# EAGLE library part BBB-M1 (library mita-akiba)
BeagleBone Black Cape Expansion Headers Mode-1 Caution(1)! Any pin input must not exceed 3.3V Caution(2)! Any pin must not be fed with voltages before the board is turned on
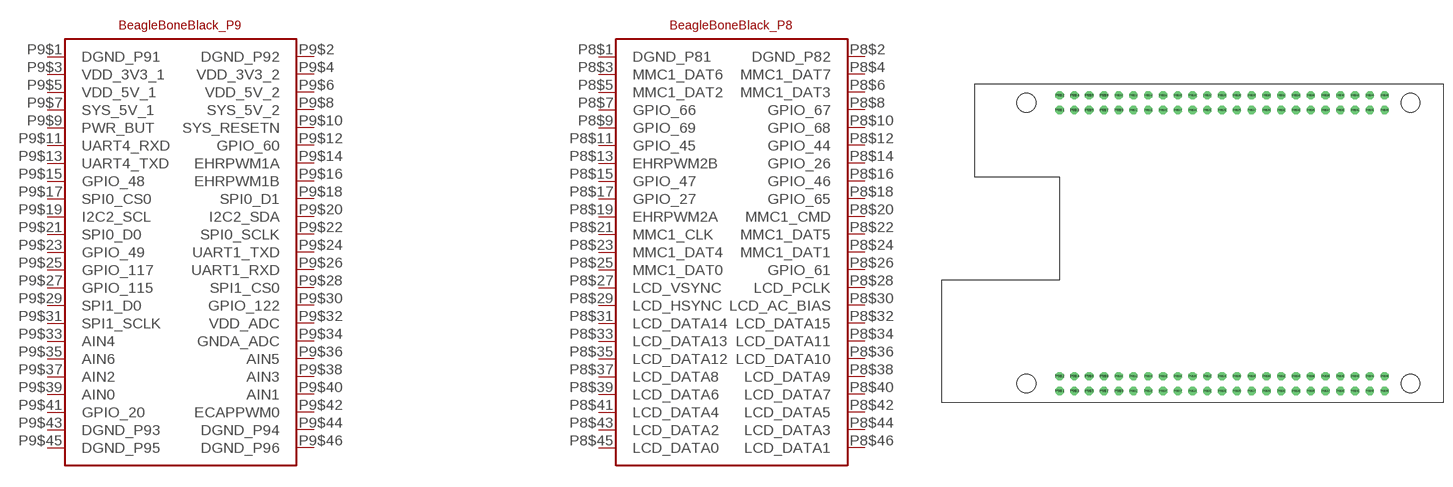
[diagram p70: symbol with the pads of BBB; footprint BBB]

Designator prefix -

## BBB-M1  [BBB]
P8$1  DGND_P81
P8$2  DGND_P82
P8$3  MMC1_DAT6
P8$4  MMC1_DAT7
P8$5  MMC1_DAT2
P8$6  MMC1_DAT3
P8$7  GPIO_66
P8$8  GPIO_67
P8$9  GPIO_69
P8$10  GPIO_68
P8$11  GPIO_45
P8$12  GPIO_44
P8$13  EHRPWM2B
P8$14  GPIO_26
P8$15  GPIO_47
P8$16  GPIO_46
P8$17  GPIO_27
P8$18  GPIO_65
P8$19  EHRPWM2A
P8$20  MMC1_CMD
P8$21  MMC1_CLK
P8$22  MMC1_DAT5
P8$23  MMC1_DAT4
P8$24  MMC1_DAT1
P8$25  MMC1_DAT0
P8$26  GPIO_61
P8$27  LCD_VSYNC
P8$28  LCD_PCLK
P8$29  LCD_HSYNC
P8$30  LCD_AC_BIAS
P8$31  LCD_DATA14
P8$32  LCD_DATA15
P8$33  LCD_DATA13
P8$34  LCD_DATA11
P8$35  LCD_DATA12
P8$36  LCD_DATA10
P8$37  LCD_DATA8
P8$38  LCD_DATA9
P8$39  LCD_DATA6
P8$40  LCD_DATA7
P8$41  LCD_DATA4
P8$42  LCD_DATA5
P8$43  LCD_DATA2
P8$44  LCD_DATA3
P8$45  LCD_DATA0
P8$46  LCD_DATA1
P9$1  DGND_P91
P9$2  DGND_P92
P9$3  VDD_3V3_1
P9$4  VDD_3V3_2
P9$5  VDD_5V_1
P9$6  VDD_5V_2
P9$7  SYS_5V_1
P9$8  SYS_5V_2
P9$9  PWR_BUT
P9$10  SYS_RESETN
P9$11  UART4_RXD
P9$12  GPIO_60
P9$13  UART4_TXD
P9$14  EHRPWM1A
P9$15  GPIO_48
P9$16  EHRPWM1B
P9$17  SPI0_CS0
P9$18  SPI0_D1
P9$19  I2C2_SCL
P9$20  I2C2_SDA
P9$21  SPI0_D0
P9$22  SPI0_SCLK
P9$23  GPIO_49
P9$24  UART1_TXD
P9$25  GPIO_117
P9$26  UART1_RXD
P9$27  GPIO_115
P9$28  SPI1_CS0
P9$29  SPI1_D0
P9$30  GPIO_122
P9$31  SPI1_SCLK
P9$32  VDD_ADC
P9$33  AIN4
P9$34  GNDA_ADC
P9$35  AIN6
P9$36  AIN5
P9$37  AIN2
P9$38  AIN3
P9$39  AIN0
P9$40  AIN1
P9$41  GPIO_20
P9$42  ECAPPWM0
P9$43  DGND_P93
P9$44  DGND_P94
P9$45  DGND_P95
P9$46  DGND_P96

## Footprint BBB (pad centres in mm)
drill 0.9 octagon: P8$1 20.32,48.26; P8$2 20.32,50.8; P8$3 22.86,48.26; P8$4 22.86,50.8; P8$5 25.4,48.26; P8$6 25.4,50.8; P8$7 27.94,48.26; P8$8 27.94,50.8; P8$9 30.48,48.26; P8$10 30.48,50.8; P8$11 33.02,48.26; P8$12 33.02,50.8; P8$13 35.56,48.26; P8$14 35.56,50.8; P8$15 38.1,48.26; P8$16 38.1,50.8; P8$17 40.64,48.26; P8$18 40.64,50.8; P8$19 43.18,48.26; P8$20 43.18,50.8; P8$21 45.72,48.26; P8$22 45.72,50.8; P8$23 48.26,48.26; P8$24 48.26,50.8; P8$25 50.8,48.26; P8$26 50.8,50.8; P8$27 53.34,48.26; P8$28 53.34,50.8; P8$29 55.88,48.26; P8$30 55.88,50.8; P8$31 58.42,48.26; P8$32 58.42,50.8; P8$33 60.96,48.26; P8$34 60.96,50.8; P8$35 63.5,48.26; P8$36 63.5,50.8; P8$37 66.04,48.26; P8$38 66.04,50.8; P8$39 68.58,48.26; P8$40 68.58,50.8; P8$41 71.12,48.26; P8$42 71.12,50.8; P8$43 73.66,48.26; P8$44 73.66,50.8; P8$45 76.2,48.26; P8$46 76.2,50.8; P9$1 20.32,0; P9$2 20.32,2.54; P9$3 22.86,0; P9$4 22.86,2.54; P9$5 25.4,0; P9$6 25.4,2.54; P9$7 27.94,0; P9$8 27.94,2.54; P9$9 30.48,0; P9$10 30.48,2.54; P9$11 33.02,0; P9$12 33.02,2.54; P9$13 35.56,0; P9$14 35.56,2.54; P9$15 38.1,0; P9$16 38.1,2.54; P9$17 40.64,0; P9$18 40.64,2.54; P9$19 43.18,0; P9$20 43.18,2.54; P9$21 45.72,0; P9$22 45.72,2.54; P9$23 48.26,0; P9$24 48.26,2.54; P9$25 50.8,0; P9$26 50.8,2.54; P9$27 53.34,0; P9$28 53.34,2.54; P9$29 55.88,0; P9$30 55.88,2.54; P9$31 58.42,0; P9$32 58.42,2.54; P9$33 60.96,0; P9$34 60.96,2.54; P9$35 63.5,0; P9$36 63.5,2.54; P9$37 66.04,0; P9$38 66.04,2.54; P9$39 68.58,0; P9$40 68.58,2.54; P9$41 71.12,0; P9$42 71.12,2.54; P9$43 73.66,0; P9$44 73.66,2.54; P9$45 76.2,0; P9$46 76.2,2.54
hole 3.2 at 14.605,1.27
hole 3.2 at 80.645,1.27
hole 3.2 at 80.645,49.53
hole 3.2 at 14.605,49.53